# EAGLE library part MAX9814 (library maximintergrated-max9814)
he MAX9814 is a low-cost, high-quality microphone amplifier with automatic gain control (AGC) and low-noise microphone bias. The device features a low-noise preamplifier, variable gain amplifier (VGA), output amplifier, microphone-bias-voltage generator and AGC control circuitry. The library has been designed by Richard Magdycz <https://www.facebook.com/groups/eaglecadsoftUK>
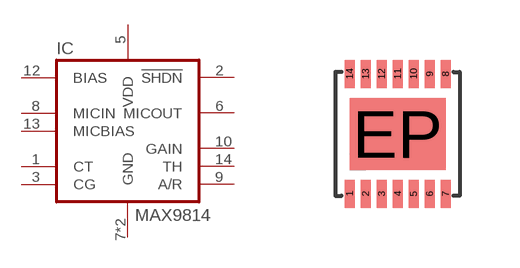
[diagram p0: symbol with the pads of TDFN14-EP; footprint TDFN14-EP]

Designator prefix IC

## MAX9814  [TDFN14-EP]
1  CT  in
2  !SHDN  in
3  CG  in
5  VDD  pwr
6  MICOUT  out
7  GND  pwr
8  MICIN  in
9  A/R  in
10  GAIN  in
12  BIAS  in
13  MICBIAS  out
14  TH  in
EP  GND  pwr

## Footprint TDFN14-EP (pad centres in mm)
smd 0.25 x 0.7: 1 -1.2,-1.5; 2 -0.8,-1.5; 3 -0.4,-1.5; 4 0,-1.5; 5 0.4,-1.5; 6 0.8,-1.5; 7 1.2,-1.5; 8 1.2,1.5; 9 0.8,1.5; 10 0.4,1.5; 11 0,1.5; 12 -0.4,1.5; 13 -0.8,1.5; 14 -1.2,1.5
smd 2.4 x 1.8: EP 0,0